# EAGLE library part MS5803-02BA (library ICs)
Pressure Sensor 0.15 PSI ~ 29.01 PSI (1 kPa ~ 200 kPa) Absolute 24 b 8-SMD Module
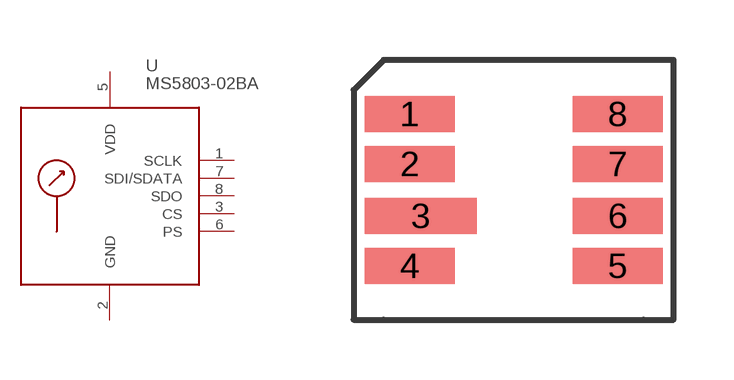
[diagram p130: symbol with the pads of MS5803-02BA; footprint MS5803-02BA]

Designator prefix U

## MS5803-02BA (DIGIKEY: 223-1624-5-ND; HEIGHT: 2.9; PRICE_PER: 11.1; VALUE: MS5803-02BA)  [MS5803-02BA]
1  SCLK
2  GND
3  CS
5  VDD
6  PS
7  SDI/SDATA
8  SDO

## Footprint MS5803-02BA (pad centres in mm)
smd 2.25 x 0.9: 1 -2.6,1.9; 2 -2.6,0.65; 4 -2.6,-1.9; 5 2.6,-1.9; 6 2.6,-0.65; 7 2.6,0.65; 8 2.6,1.9
smd 2.8 x 0.9: 3 -2.32,-0.65